# EAGLE library part PTA-07 (library con-phoenix-350)
PTA 1,5/ XX-3,5
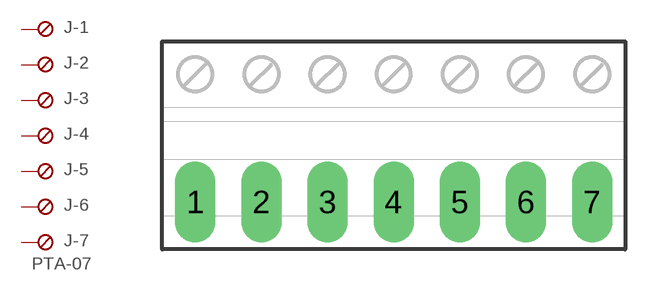
[diagram p9: symbol with the pads of PTA-07; footprint PTA-07]

Designator prefix J; gates -1=SKB -2=SKB -3=SKB -4=SKB -5=SKB -6=SKB -7=SKBU+V

## PTA-07  [PTA-07]
1  -1:S  pas
2  -2:S  pas
3  -3:S  pas
4  -4:S  pas
5  -5:S  pas
6  -6:S  pas
7  -7:S  pas

## Footprint PTA-07 (pad centres in mm)
PTA 1,5/ 7-3,5
drill 1.422 long: 1 -10.5,0; 2 -7,0; 3 -3.5,0; 4 0,0; 5 3.5,0; 6 7,0; 7 10.5,0